# Altium integrated library TMC2209.IntLib: 1 symbol
Pins are listed as number, name and electrical type; pins without a type are passive.

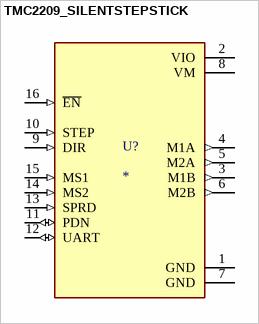
[diagram p0: symbol TMC2209_SILENTSTEPSTICK]

## TMC2209_SILENTSTEPSTICK
designator U?
TMC2209 Motor Controller/Driver Power Management Evaluation Board; MF: Trinamic Motion Control GmbH; MP: TMC2209 SILENTSTEPSTICK; SnapEDA_Link: https://www.snapeda.com/parts/TMC2209%20SILENTSTEPSTICK/Trinamic/view-part/?ref=snap; Package: None; Value: *; Check_prices: https://www.snapeda.com/parts/TMC2209%20SILENTSTEPSTICK/Trinamic/view-part/?ref=eda
footprint MODULE_TMC2209_SILENTSTEPSTICK
pins: 1 GND (power), 2 VIO (power), 3 M1B (out), 4 M1A (out), 5 M2A (out), 6 M2B (out), 7 GND (power), 8 VM (power), 9 DIR (in), 10 STEP (in), 11 PDN (io), 12 UART (io), 13 SPRD (in), 14 MS2 (in), 15 MS1 (in), 16 ~{EN} (in)